# EAGLE library part PIC32MZ2048ECM064 (library PonLib)
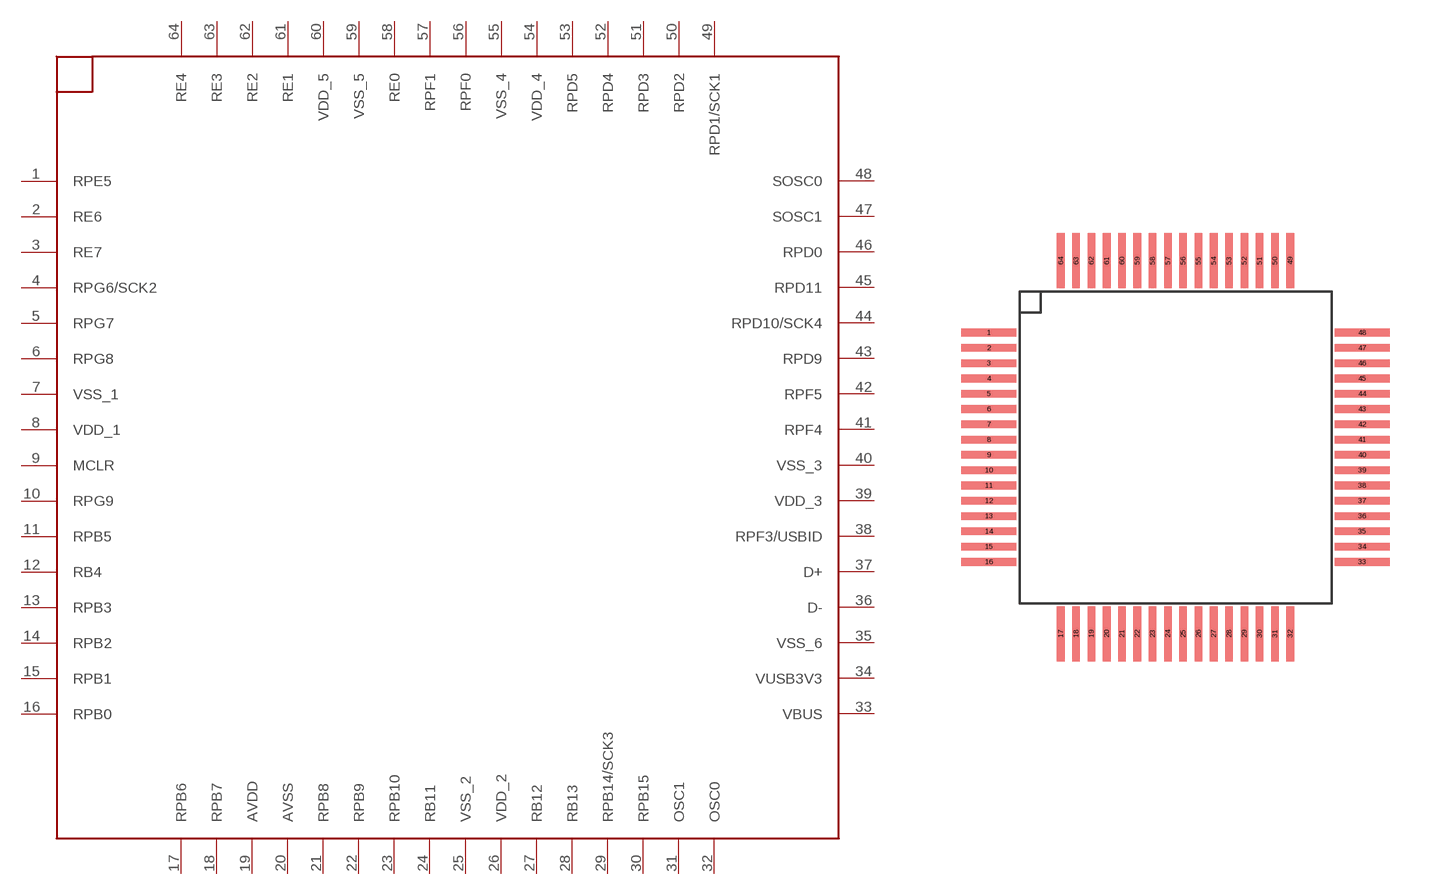
[diagram p15: symbol with the pads of TQFP-64-0.5-MICROCHIP; footprint TQFP-64-0.5-MICROCHIP]

Designator prefix -

## PIC32MZ2048ECM064  [TQFP-64-0.5-MICROCHIP]
1  RPE5
2  RE6
3  RE7
4  RPG6/SCK2
5  RPG7
6  RPG8
7  VSS_1
8  VDD_1
9  MCLR
10  RPG9
11  RPB5
12  RB4
13  RPB3
14  RPB2
15  RPB1
16  RPB0
17  RPB6
18  RPB7
19  AVDD
20  AVSS
21  RPB8
22  RPB9
23  RPB10
24  RB11
25  VSS_2
26  VDD_2
27  RB12
28  RB13
29  RPB14/SCK3
30  RPB15
31  OSC1
32  OSC0
33  VBUS
34  VUSB3V3
35  VSS_6
36  D-
37  D+
38  RPF3/USBID
39  VDD_3
40  VSS_3
41  RPF4
42  RPF5
43  RPD9
44  RPD10/SCK4
45  RPD11
46  RPD0
47  SOSC1
48  SOSC0
49  RPD1/SCK1
50  RPD2
51  RPD3
52  RPD4
53  RPD5
54  VDD_4
55  VSS_4
56  RPF0
57  RPF1
58  RE0
59  VSS_5
60  VDD_5
61  RE1
62  RE2
63  RE3
64  RE4

## Footprint TQFP-64-0.5-MICROCHIP (pad centres in mm)
smd 1.8 x 0.25: 1 -6.1,3.75; 2 -6.1,3.25; 3 -6.1,2.75; 4 -6.1,2.25; 5 -6.1,1.75; 6 -6.1,1.25; 7 -6.1,0.75; 8 -6.1,0.25; 9 -6.1,-0.25; 10 -6.1,-0.75; 11 -6.1,-1.25; 12 -6.1,-1.75; 13 -6.1,-2.25; 14 -6.1,-2.75; 15 -6.1,-3.25; 16 -6.1,-3.75; 33 6.1,-3.75; 34 6.1,-3.25; 35 6.1,-2.75; 36 6.1,-2.25; 37 6.1,-1.75; 38 6.1,-1.25; 39 6.1,-0.75; 40 6.1,-0.25; 41 6.1,0.25; 42 6.1,0.75; 43 6.1,1.25; 44 6.1,1.75; 45 6.1,2.25; 46 6.1,2.75; 47 6.1,3.25; 48 6.1,3.75
smd 0.25 x 1.8: 17 -3.75,-6.1; 18 -3.25,-6.1; 19 -2.75,-6.1; 20 -2.25,-6.1; 21 -1.75,-6.1; 22 -1.25,-6.1; 23 -0.75,-6.1; 24 -0.25,-6.1; 25 0.25,-6.1; 26 0.75,-6.1; 27 1.25,-6.1; 28 1.75,-6.1; 29 2.25,-6.1; 30 2.75,-6.1; 31 3.25,-6.1; 32 3.75,-6.1; 49 3.75,6.1; 50 3.25,6.1; 51 2.75,6.1; 52 2.25,6.1; 53 1.75,6.1; 54 1.25,6.1; 55 0.75,6.1; 56 0.25,6.1; 57 -0.25,6.1; 58 -0.75,6.1; 59 -1.25,6.1; 60 -1.75,6.1; 61 -2.25,6.1; 62 -2.75,6.1; 63 -3.25,6.1; 64 -3.75,6.1